# Altium footprint library AO4405.PcbLib: 1 footprints
Each footprint in its own frame and in the unit in brackets; x right, y up, seen from the top. Pads: shape width x height; smd on the part's side, far side on the other; paste and mask are expansions set on the pad; w line width, h text height; cw(c..) or ccw(c..) is an arc to the next point about the centre after c.
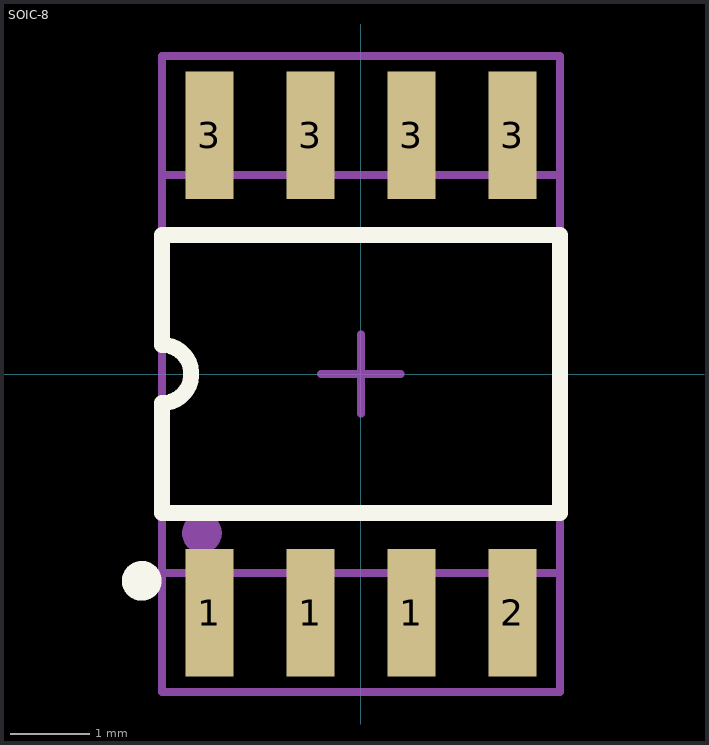
[diagram p0: the footprint, top view; thin cyan lines are the x and y axes]

## SOIC-8 [mm] "4320.8-А Small Outline; 8 Leads; Body Width 3.9 mm; Pitch 1.27 mm"
height 1.75
pads (8):
  rect 0.6x1.6 smd: 1(-1.905,-3) 1(-0.635,-3) 1(0.635,-3) 2(1.905,-3) 3(-1.905,3) 3(-0.635,3) 3(0.635,3) 3(1.905,3)
Top Overlay:
  circle w0.25: c-2.755,-2.6 r0.125
  lines w0.2: -2.5,-1.75 -2.5,-0.367 ccw(c-2.5,0) -2.5,0.367 -2.5,1.75 2.5,1.75 2.5,-1.75 -2.5,-1.75
Mechanical 7:
  lines w0.05: -2.5,-4 -2.5,4 2.5,4 2.5,-4 -2.5,-4
  text ".Designator" at -1.5,-0.5 h1.5
Mechanical 13:
  circle w0.25: c-2,-2 r0.125
  lines w0.1: -2.5,-2.5 2.5,-2.5 2.5,2.5 -2.5,2.5 -2.5,-2.5
Mechanical 15:
  lines w0.1: -0.5,0 0.5,0 ; 0,-0.5 0,0.5 ; -2.5,-4 2.5,-4 2.5,4 -2.5,4 -2.5,-4
3D body "User Library-SOIC-8.STEP": height 1.75, standoff 0, extent -2.5,-3.006 2.5,3.006